# EAGLE library part TPS6122 (library IC_Power-Management)
Low Input Voltage, 0.7V Boost Converter With 5.5μA Quiescent Current Datasheet <https://www.ti.com/lit/ds/symlink/tps61220.pdf?ts=1593531196913&ref_url=https%253A%252F%252Fwww.ti.com%252Fstore%252Fti%252Fen%252Fp%252Fproduct%252F%253Fp%253DTPS61220DCKR>
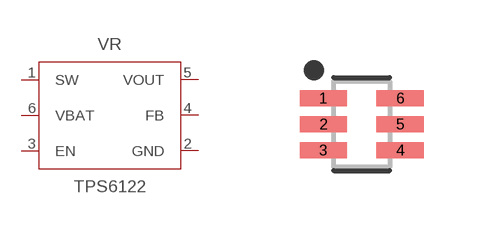
[diagram p6: symbol with the pads of SOT65P210X110-6N; footprint SOT65P210X110-6N]

Designator prefix VR

## TPS61220DCKR_SOT23 (CATEGORY: IC_Power-Management; DESCRIPTION: IC REG BOOST ADJ 200MA SC70-6; INPUT_VOLTAGE: 0.7V to 5.5V; MANUFACTURER: TI; MPN: TPS61220DCKR; OPERATING_TEMP: -40°C ~ 125°C; OUTPUT_VOLTAGE: 1.8V to 6V; PART_STATUS: Active; ROHS_COMPLIANT: Yes; SUB-CATEGORY: Voltage Regulator; TOPOLOGY: Boost; TYPE: DC-DC Switching; VALUE: TPS61220), TPS61220DCKT_SOT23 (CATEGORY: IC_Power-Management; DESCRIPTION: IC REG BOOST ADJ 200MA SC70-6; INPUT_VOLTAGE: 0.7V to 5.5V; MANUFACTURER: TI; MPN: TPS61220DCKT; OPERATING_TEMP: -40°C ~ 125°C; OUTPUT_VOLTAGE: 1.8V to 6V; PART_STATUS: Active; ROHS_COMPLIANT: Yes; SUB-CATEGORY: Voltage Regulator; TOPOLOGY: Boost; TYPE: DC-DC Switching; VALUE: TPS61220), TPS61221DCKR_SOT23 (CATEGORY: IC_Power-Management; DESCRIPTION: IC REG BOOST 3.3V 200MA SC70-6; INPUT_VOLTAGE: 0.7V to 5.5V; MANUFACTURER: TI; MPN: TPS61221DCKR; OPERATING_TEMP: -40°C ~ 125°C; OUTPUT_VOLTAGE: 3.3V to 6V; PART_STATUS: Active; ROHS_COMPLIANT: Yes; SUB-CATEGORY: Voltage Regulator; TOPOLOGY: Boost; TYPE: DC-DC Switching; VALUE: TPS61221), TPS61221DCKT_SOT23 (CATEGORY: IC_Power-Management; DESCRIPTION: IC REG BOOST 3.3V 200MA SC70-6; INPUT_VOLTAGE: 0.7V to 5.5V; MANUFACTURER: TI; MPN: TPS61221DCKT; OPERATING_TEMP: -40°C ~ 125°C; OUTPUT_VOLTAGE: 3.3V to 6V; PART_STATUS: Active; ROHS_COMPLIANT: Yes; SUB-CATEGORY: Voltage Regulator; TOPOLOGY: Boost; TYPE: DC-DC Switching; VALUE: TPS61221), TPS61222DCKR_SOT23 (CATEGORY: IC_Power-Management; DESCRIPTION: IC REG BOOST 5V 200MA SC70-6; INPUT_VOLTAGE: 0.7V to 5.5V; MANUFACTURER: TI; MPN: TPS61222DCKR; OPERATING_TEMP: -40°C ~ 125°C; OUTPUT_VOLTAGE: 1.8V to 6V; PART_STATUS: Active; ROHS_COMPLIANT: Yes; SUB-CATEGORY: Voltage Regulator; TOPOLOGY: Boost; TYPE: DC-DC Switching; VALUE: TPS61222), TPS61222DCKT_SOT23 (CATEGORY: IC_Power-Management; DESCRIPTION: IC REG BOOST 5V 200MA SC70-6; INPUT_VOLTAGE: 0.7V to 5.5V; MANUFACTURER: TI; MPN: TPS61222DCKT; OPERATING_TEMP: -40°C ~ 125°C; OUTPUT_VOLTAGE: 1.8V to 6V; PART_STATUS: Active; ROHS_COMPLIANT: Yes; SUB-CATEGORY: Voltage Regulator; TOPOLOGY: Boost; TYPE: DC-DC Switching; VALUE: TPS61222)  [SOT65P210X110-6N]
1  SW  in
2  GND  pwr
3  EN  in
4  FB  in
5  VOUT  out
6  VBAT  in

## Footprint SOT65P210X110-6N (pad centres in mm)
6-SOT23, 0.65 mm pitch, 2.10 mm span, 2.00 X 1.25 X 1.10 mm body 6-pin SOT23 package with 0.65 mm pitch, 2.10 mm span with body size 2.00 X 1.25 X 1.10 mm
smd 1.186 x 0.397: 1 -0.962,0.65; 2 -0.962,0; 3 -0.962,-0.65; 4 0.962,-0.65; 5 0.962,0; 6 0.962,0.65